# Altium integrated library DNM48Z V1.1.IntLib: 13 symbols
Pins are listed as number, name and electrical type; pins without a type are passive.

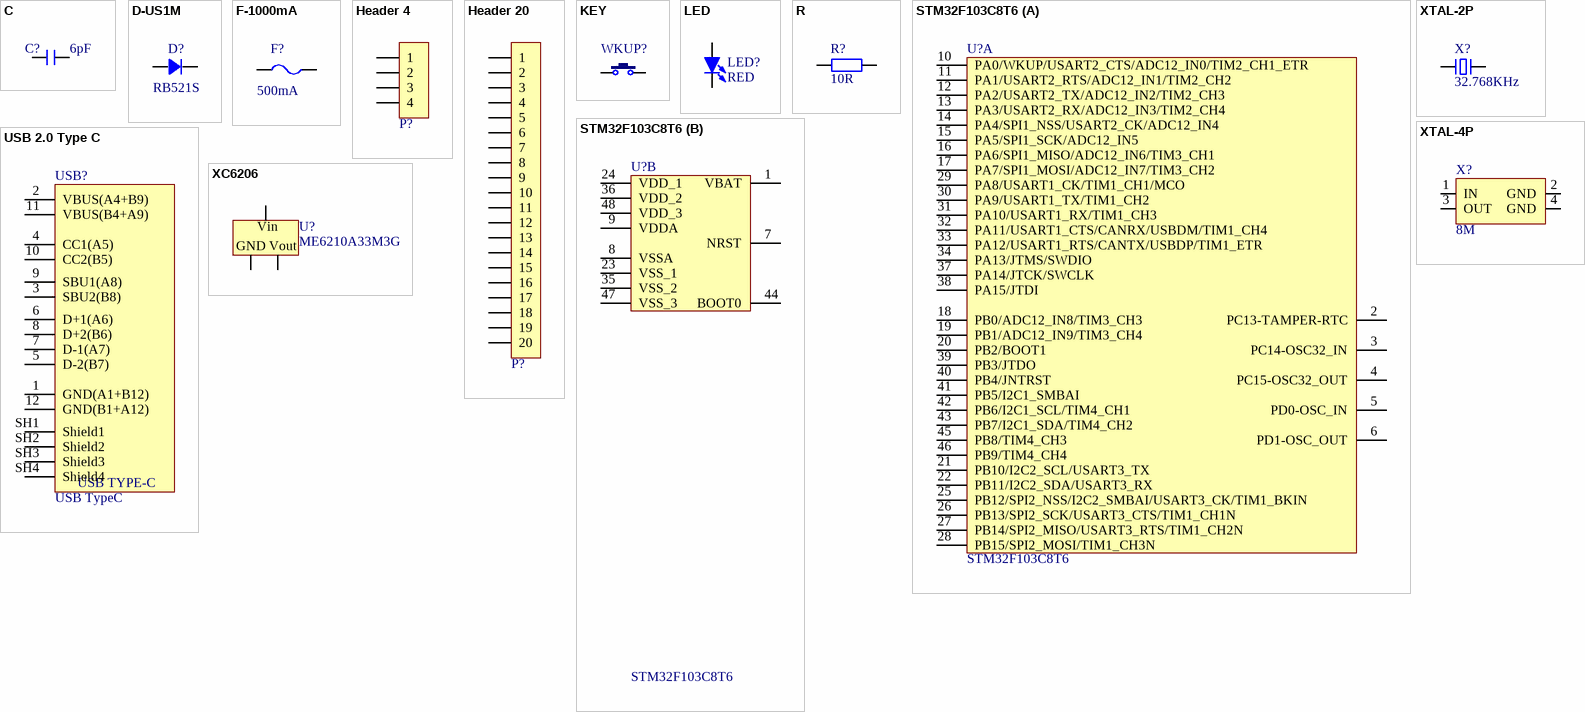
[diagram p0: symbols C to XTAL-4P]

## C
designator C?, comment 6pF
无极性电容; BOM名称: 无极性贴片电容; 版权归属: 正点原子; 学习资源: www.openedv.com
footprint C 0201 (无极性贴片电容)
footprint C 0402 (无极性贴片电容)
footprint C 0603 (无极性贴片电容)
footprint C 0805 (无极性贴片电容)
footprint C 1206 (无极性贴片电容)
footprint C 1210 (无极性贴片电容)
footprint C 1808 (无极性贴片电容)
footprint C 1812 (无极性贴片电容)
footprint C 1825 (无极性贴片电容)
footprint C 2225 (无极性贴片电容)
pins: 1, 2

## D-US1M
designator D?, comment RB521S
开关二级管
footprint DO-214AC
footprint SMA (二极管 SMA)
footprint SOD-323 (二极管)
footprint SOD-123 (二极管)
footprint SMB (二极管 SMB)
footprint SOD-523 (二极管)
pins: 1, 2

## F-1000mA
designator F?, comment 500mA
自恢复保险丝
footprint FU 0402 (贴片保险丝(0402))
footprint FU 0603 (贴片保险丝(0603))
footprint FU 0805 (贴片保险丝(0805))
footprint FU 1206 (贴片保险丝(1206))
footprint FU 1210 (贴片保险丝(1210))
footprint FU 1812 (贴片保险丝(1812))
footprint FU 2018 (贴片保险丝(2018))
pins: 1, 2

## Header 4
designator P?, comment Header 1X4  (value not drawn)
4P接插件; 版权归属: 正点原子; Parameter: 接插件; BOM名称: 4P接插件; 学习资源: www.openedv.com
footprint SH1.0-4P S-L (SH座子1.0MM P 立式贴片)
footprint SH1.0-4P S-W (SH座子1.0MM 4P 卧式贴片)
footprint PH2.0-4P H-S (PH座子2.0mm 4P 卧式贴片)
footprint PH2.0-4P H-T (PH座子2.0mm 4P 卧式弯插)
footprint PH2.0-4P V-T (PH座子2.0mm 4P 立式直插)
footprint KF7620-4P (PCB接线端子KF7620 7.62mm 4P)
footprint KF2510-4P (PCB接线端子KF2510 2.54mm 4P 直插)
footprint KF350-4P (PCB接线端子KF350 3.5mm 4P 直插)
footprint KF301-4P (PCB接线端子KF301 5.0mm 4P 直插)
footprint KF128-5.08-4P (PCB接线端子KF128 5.08mm 4P 直插)
footprint KF128-3.81-4P (PCB接线端子KF128 3.81mm 4P 直插)
footprint KF2EDGK5.08-4P_H (PCB接线端子KF2EDGK 5.08mm 4P 卧式弯插)
footprint KF2EDGK5.08-4P (PCB接线端子KF2EDGK 5.08mm 4P 立式直插)
footprint KF2EDGK5.0-4P_H (PCB接线端子KF2EDGK 5.0mm 4P 卧式弯插)
footprint KF2EDGK5.0-4P (PCB接线端子KF2EDGK 5.0mm 4P 立式直插)
footprint Header 2.54 1X4P (排针(1X4P,2.54,直插))
footprint Header 2.54 1X4P-H (排针(1X4P,2.54,弯插))
footprint Header 2.54 1X4P-H-S (排针(1X4P,2.54,卧贴))
footprint Header 2.54 1X4P-S (排针(1X4P,2.54,立贴))
footprint XH2.54-4P H-S (XH座子 2.54mm 4P 卧式贴片)
footprint XH2.54-4P H-T (XH座子 2.54mm 4P 卧式弯插)
footprint XH2.54-4P V-T (XH座子 2.54mm 4P 立式直插)
footprint VH3.96-4P H-T (VH座子3.96mm 4P 卧式弯插)
footprint VH3.96-4P V-T (VH座子3.96mm 4P 立式直插)
footprint Socket 2.54 1X4P-Y (排座(1*4P,2.54,圆孔,直插))
footprint Socket 2.54 1X4P-H-S (排座(1*4P,2.54,卧贴))
footprint Socket 2.54 1X4P-H (排座(1*4P,2.54弯插))
footprint Socket 2.54 1X4P (排座(1*4P,2.54,直插))
footprint Socket 2.0 1X4P (排座(1*4P,2.0,直插))
footprint Header 2.0 1X4P (排针(1X4P,2.0,直插))
footprint Header 1.27 1X4P (排针(1*4P,1.27,直插))
footprint XHB2.54-4P H-T (XHB座子 2.54mm 4P 卧式弯插)
pins: 1, 2, 3, 4

## Header 20
designator P?, comment HDR-1X20  (value not drawn)
20P接插件; 版权归属: 正点原子; Parameter: 接插件; BOM名称: 20P接插件; 学习资源: www.openedv.com
footprint Socket 2.54 1X20P (排座(1*20P,2.54,直插))
footprint Socket 2.54 1X20P-H (排座(1*20P,2.54弯插))
footprint Socket 2.54 1X20P-H-S (排座(1*20P,2.54,卧贴))
footprint Header 2.54 1X20P (排针(1X20P,2.54,直插))
footprint Header 2.54 1X20P-H (排针(1X20P,2.54,弯插))
footprint Header 2.54 1X20P-H-S (排针(1X20P,2.54,卧贴))
footprint PH2.0-20P H-S (PH座子2.0mm 20P 卧式贴片)
pins: 1, 2, 3, 4, 5, 6, 7, 8, 9, 10, 11, 12, 13, 14, 15, 16, 17, 18, 19, 20

## KEY
designator WKUP?, comment WKUP  (value not drawn)
按键; BOM名称: 3x6轻触开关; 版权归属: 正点原子; Parameter: 按键/开关; 学习资源: www.openedv.com
footprint KEY 3.2*4.2*2.5 4P SMD (轻触开关 椭圆形按键 3.2*4.2*2.5mm 4P 贴片)
footprint KEY 3*6*2.5 2P SMD (轻触开关 3*6*2.5mm 2P 贴片)
pins: 1, 2

## LED
designator LED?, comment RED
LED; BOM名称: 插件LED; 版权归属: 正点原子; Parameter: 发光二极管; 学习资源: www.openedv.com
footprint LED 3MM Red (红色3mm直插LED)
footprint LED 0805 Green (绿色0805LED)
footprint LED 0603 Yellow (黄色0603LED)
footprint LED 0603 Red (红色0603LED)
footprint LED 5MM Red (红色5mm直插LED)
footprint LED 0805 Red (红色0805LED)
footprint LED 0603 Green (绿色0603LED)
footprint LED 1206 Red (红色1206LED)
footprint LED 3MM-YC (橙色3mm直插LED)
footprint LED 3MM Blue (蓝色3mm直插LED)
footprint LED 3MM Green (绿色3mm直插LED)
footprint LED 3MM white (白色3mm直插LED)
footprint LED 3MM Yellow (黄色3mm直插LED)
footprint LED 5MM-YC (橙色5mm直插LED)
footprint LED 5MM Green (绿色5mm直插LED)
footprint LED 5MM white (白色5mm直插LED)
footprint LED 5MM Blue (蓝色5mm直插LED)
footprint LED 0805 Yellow (黄色0805LED)
footprint LED 0603 white (白色0603LED)
footprint LED 0603 Blue (蓝色0603LED)
footprint LED 0805 Blue (蓝色0805LED)
footprint LED 0805 white (白色0805LED)
footprint LED 1206 yellow (黄色1206LED)
footprint LED 1206 white (白色1206LED)
footprint LED 1206 Green (绿色1206LED)
footprint LED 1206 Blue (蓝色1206LED)
pins: 1 A, 2 K

## R
designator R?, comment 10R
电阻; BOM名称: 贴片电阻; 版权归属: 正点原子; 学习资源: www.openedv.com; Parameter: 电阻
footprint R 0201 (1/20W贴片电阻)
footprint R 0402 (1/16W贴片电阻)
footprint R 0603 (1/10W贴片电阻)
footprint R 0805 (1/8W贴片电阻)
footprint R 1206 (1/4W贴片电阻)
footprint R 1210 (1/3W贴片电阻)
footprint R 1812 (1/2W贴片电阻)
footprint R 2010 (3/4W贴片电阻)
footprint R 2512 (1W贴片电阻)
pins: 1, 2

## STM32F103C8T6
designator U?
ARM Cortex M3 72Mhz
footprint LQFP48 7X7_N (48脚，体宽7x7mm，脚距0.5mm)
part A pins: 2 PC13-TAMPER-RTC, 3 PC14-OSC32_IN, 4 PC15-OSC32_OUT, 5 PD0-OSC_IN, 6 PD1-OSC_OUT, 10 PA0/WKUP/USART2_CTS/ADC12_IN0/TIM2_CH1_ETR, 11 PA1/USART2_RTS/ADC12_IN1/TIM2_CH2, 12 PA2/USART2_TX/ADC12_IN2/TIM2_CH3, 13 PA3/USART2_RX/ADC12_IN3/TIM2_CH4, 14 PA4/SPI1_NSS/USART2_CK/ADC12_IN4, 15 PA5/SPI1_SCK/ADC12_IN5, 16 PA6/SPI1_MISO/ADC12_IN6/TIM3_CH1, 17 PA7/SPI1_MOSI/ADC12_IN7/TIM3_CH2, 18 PB0/ADC12_IN8/TIM3_CH3, 19 PB1/ADC12_IN9/TIM3_CH4, 20 PB2/BOOT1, 21 PB10/I2C2_SCL/USART3_TX, 22 PB11/I2C2_SDA/USART3_RX, 25 PB12/SPI2_NSS/I2C2_SMBAI/USART3_CK/TIM1_BKIN, 26 PB13/SPI2_SCK/USART3_CTS/TIM1_CH1N, 27 PB14/SPI2_MISO/USART3_RTS/TIM1_CH2N, 28 PB15/SPI2_MOSI/TIM1_CH3N, 29 PA8/USART1_CK/TIM1_CH1/MCO, 30 PA9/USART1_TX/TIM1_CH2, 31 PA10/USART1_RX/TIM1_CH3, 32 PA11/USART1_CTS/CANRX/USBDM/TIM1_CH4, 33 PA12/USART1_RTS/CANTX/USBDP/TIM1_ETR, 34 PA13/JTMS/SWDIO, 37 PA14/JTCK/SWCLK, 38 PA15/JTDI, 39 PB3/JTDO, 40 PB4/JNTRST, 41 PB5/I2C1_SMBAI, 42 PB6/I2C1_SCL/TIM4_CH1, 43 PB7/I2C1_SDA/TIM4_CH2, 45 PB8/TIM4_CH3, 46 PB9/TIM4_CH4
part B pins: 1 VBAT, 7 NRST, 8 VSSA, 9 VDDA, 23 VSS_1, 24 VDD_1, 35 VSS_2, 36 VDD_2, 44 BOOT0, 47 VSS_3, 48 VDD_3

## USB 2.0 Type C
designator USB?, comment USB TypeC
12P TypeC 母座; 版权归属: 正点原子; Parameter: 接口器件; 学习资源: www.openedv.com
footprint USB2.0 Type-C (USB Type-C 12P/16P)
footprint USB2.0-TYPE-C-16P (USB Type-C 12P/16P 加固定焊盘)
pins: 1 GND(A1+B12), 2 VBUS(A4+B9), 3 SBU2(B8), 4 CC1(A5), 5 D-2(B7), 6 D+1(A6), 7 D-1(A7), 8 D+2(B6), 9 SBU1(A8), 10 CC2(B5), 11 VBUS(B4+A9), 12 GND(B1+A12), SH1 Shield1, SH2 Shield2, SH3 Shield3, SH4 Shield4
text: USB TYPE-C

## XC6206
designator U?, comment ME6210A33M3G
LDO 3.3V 500mA; 版权归属: 正点原子; Parameter: 芯片; Package: SOT-23; 学习资源: www.openedv.com
footprint SOT23-3L (3x1.3x1mm(长宽高))
footprint SOT23-3M (3x1.3x1mm(长宽高))
footprint SOT23-3N (3x1.3x1mm(长宽高))
pins: 1 GND, 2 Vout, 3 Vin

## XTAL-2P
designator X?, comment 32.768KHz
2脚无源晶振; BOM名称: 2脚晶振; 版权归属: 正点原子; Parameter: 晶振; 学习资源: www.openedv.com
footprint XTAL-3X10
footprint XTAL-3X8
footprint XTAL-2X6H
footprint XTAL-2X6
footprint XTAL-49S DIP
footprint XTAL-3215
footprint XTAL-3X8H
footprint XTAL-49S SMD
pins: 1, 2

## XTAL-4P
designator X?, comment 8M
4脚无源晶振; BOM名称: 4脚晶振; 版权归属: 正点原子; Parameter: 晶振; 学习资源: www.openedv.com
footprint XTAL-5032
footprint XTAL-3225
footprint XTAL-7050 (7mm*5mm)
pins: 1 IN, 2 GND, 3 OUT, 4 GND